# Altium schematic symbol library stm32f413vgt6.SchLib: 1 symbol
Pins are listed as number, name and electrical type; pins without a type are passive.

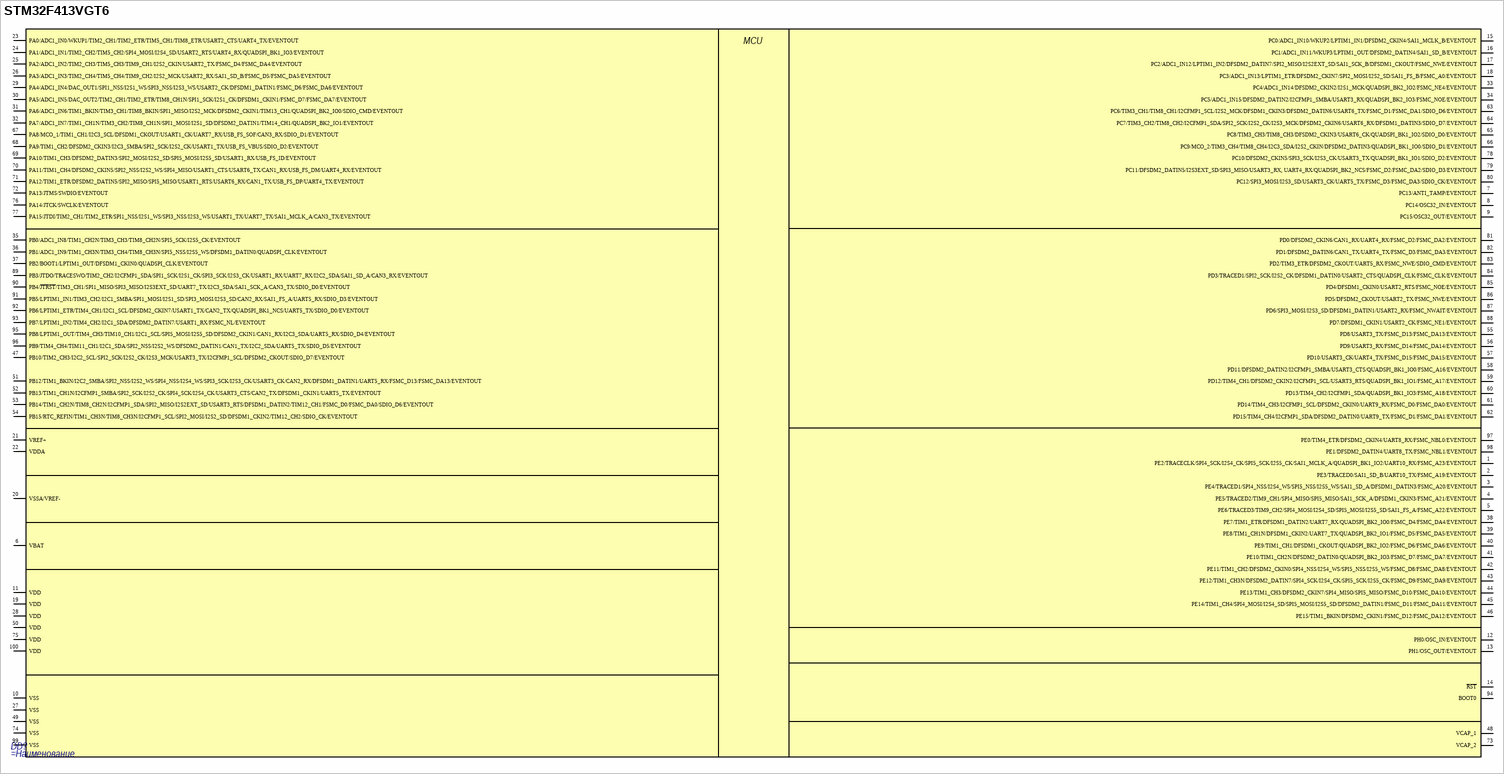
[diagram p0: symbol STM32F413VGT6]

## STM32F413VGT6
designator DD?
=Описание
pins: 1 PE2/TRACECLK/SPI4_SCK/I2S4_CK/SPI5_SCK/I2S5_CK/SAI1_MCLK_A/QUADSPI_BK1_IO2/UART10_RX/FSMC_A23/EVENTOUT, 2 PE3/TRACED0/SAI1_SD_B/UART10_TX/FSMC_A19/EVENTOUT, 3 PE4/TRACED1/SPI4_NSS/I2S4_WS/SPI5_NSS/I2S5_WS/SAI1_SD_A/DFSDM1_DATIN3/FSMC_A20/EVENTOUT, 4 PE5/TRACED2/TIM9_CH1/SPI4_MISO/SPI5_MISO/SAI1_SCK_A/DFSDM1_CKIN3/FSMC_A21/EVENTOUT, 5 PE6/TRACED3/TIM9_CH2/SPI4_MOSI/I2S4_SD/SPI5_MOSI/I2S5_SD/SAI1_FS_A/FSMC_A22/EVENTOUT, 6 VBAT, 7 PC13/ANTI_TAMP/EVENTOUT, 8 PC14/OSC32_IN/EVENTOUT, 9 PC15/OSC32_OUT/EVENTOUT, 10 VSS, 11 VDD, 12 PH0/OSC_IN/EVENTOUT, 13 PH1/OSC_OUT/EVENTOUT, 14 ~{RST}, 15 PC0/ADC1_IN10/WKUP2/LPTIM1_IN1/DFSDM2_CKIN4/SAI1_MCLK_B/EVENTOUT, 16 PC1/ADC1_IN11/WKUP3/LPTIM1_OUT/DFSDM2_DATIN4/SAI1_SD_B/EVENTOUT, 17 PC2/ADC1_IN12/LPTIM1_IN2/DFSDM2_DATIN7/SPI2_MISO/I2S2EXT_SD/SAI1_SCK_B/DFSDM1_CKOUT/FSMC_NWE/EVENTOUT, 18 PC3/ADC1_IN13/LPTIM1_ETR/DFSDM2_CKIN7/SPI2_MOSI/I2S2_SD/SAI1_FS_B/FSMC_A0/EVENTOUT, 19 VDD, 20 VSSA/VREF-, 21 VREF+, 22 VDDA, 23 PA0/ADC1_IN0/WKUP1/TIM2_CH1/TIM2_ETR/TIM5_CH1/TIM8_ETR/USART2_CTS/UART4_TX/EVENTOUT, 24 PA1/ADC1_IN1/TIM2_CH2/TIM5_CH2/SPI4_MOSI/I2S4_SD/USART2_RTS/UART4_RX/QUADSPI_BK1_IO3/EVENTOUT, 25 PA2/ADC1_IN2/TIM2_CH3/TIM5_CH3/TIM9_CH1/I2S2_CKIN/USART2_TX/FSMC_D4/FSMC_DA4/EVENTOUT, 26 PA3/ADC1_IN3/TIM2_CH4/TIM5_CH4/TIM9_CH2/I2S2_MCK/USART2_RX/SAI1_SD_B/FSMC_D5/FSMC_DA5/EVENTOUT, 27 VSS, 28 VDD, 29 PA4/ADC1_IN4/DAC_OUT1/SPI1_NSS/I2S1_WS/SPI3_NSS/I2S3_WS/USART2_CK/DFSDM1_DATIN1/FSMC_D6/FSMC_DA6/EVENTOUT, 30 PA5/ADC1_IN5/DAC_OUT2/TIM2_CH1/TIM2_ETR/TIM8_CH1N/SPI1_SCK/I2S1_CK/DFSDM1_CKIN1/FSMC_D7/FSMC_DA7/EVENTOUT, 31 PA6/ADC1_IN6/TIM1_BKIN/TIM3_CH1/TIM8_BKIN/SPI1_MISO/I2S2_MCK/DFSDM2_CKIN1/TIM13_CH1/QUADSPI_BK2_IO0/SDIO_CMD/EVENTOUT, 32 PA7/ADC1_IN7/TIM1_CH1N/TIM3_CH2/TIM8_CH1N/SPI1_MOSI/I2S1_SD/DFSDM2_DATIN1/TIM14_CH1/QUADSPI_BK2_IO1/EVENTOUT, 33 PC4/ADC1_IN14/DFSDM2_CKIN2/I2S1_MCK/QUADSPI_BK2_IO2/FSMC_NE4/EVENTOUT, 34 PC5/ADC1_IN15/DFSDM2_DATIN2/I2CFMP1_SMBA/USART3_RX/QUADSPI_BK2_IO3/FSMC_NOE/EVENTOUT, 35 PB0/ADC1_IN8/TIM1_CH2N/TIM3_CH3/TIM8_CH2N/SPI5_SCK/I2S5_CK/EVENTOUT, 36 PB1/ADC1_IN9/TIM1_CH3N/TIM3_CH4/TIM8_CH3N/SPI5_NSS/I2S5_WS/DFSDM1_DATIN0/QUADSPI_CLK/EVENTOUT, 37 PB2/BOOT1/LPTIM1_OUT/DFSDM1_CKIN0/QUADSPI_CLK/EVENTOUT, 38 PE7/TIM1_ETR/DFSDM1_DATIN2/UART7_RX/QUADSPI_BK2_IO0/FSMC_D4/FSMC_DA4/EVENTOUT, 39 PE8/TIM1_CH1N/DFSDM1_CKIN2/UART7_TX/QUADSPI_BK2_IO1/FSMC_D5/FSMC_DA5/EVENTOUT, 40 PE9/TIM1_CH1/DFSDM1_CKOUT/QUADSPI_BK2_IO2/FSMC_D6/FSMC_DA6/EVENTOUT, 41 PE10/TIM1_CH2N/DFSDM2_DATIN0/QUADSPI_BK2_IO3/FSMC_D7/FSMC_DA7/EVENTOUT, 42 PE11/TIM1_CH2/DFSDM2_CKIN0/SPI4_NSS/I2S4_WS/SPI5_NSS/I2S5_WS/FSMC_D8/FSMC_DA8/EVENTOUT, 43 PE12/TIM1_CH3N/DFSDM2_DATIN7/SPI4_SCK/I2S4_CK/SPI5_SCK/I2S5_CK/FSMC_D9/FSMC_DA9/EVENTOUT, 44 PE13/TIM1_CH3/DFSDM2_CKIN7/SPI4_MISO/SPI5_MISO/FSMC_D10/FSMC_DA10/EVENTOUT, 45 PE14/TIM1_CH4/SPI4_MOSI/I2S4_SD/SPI5_MOSI/I2S5_SD/DFSDM2_DATIN1/FSMC_D11/FSMC_DA11/EVENTOUT, 46 PE15/TIM1_BKIN/DFSDM2_CKIN1/FSMC_D12/FSMC_DA12/EVENTOUT, 47 PB10/TIM2_CH3/I2C2_SCL/SPI2_SCK/I2S2_CK/I2S3_MCK/USART3_TX/I2CFMP1_SCL/DFSDM2_CKOUT/SDIO_D7/EVENTOUT, 48 VCAP_1, 49 VSS, 50 VDD, 51 PB12/TIM1_BKIN/I2C2_SMBA/SPI2_NSS/I2S2_WS/SPI4_NSS/I2S4_WS/SPI3_SCK/I2S3_CK/USART3_CK/CAN2_RX/DFSDM1_DATIN1/UART5_RX/FSMC_D13/FSMC_DA13/EVENTOUT, 52 PB13/TIM1_CH1N/I2CFMP1_SMBA/SPI2_SCK/I2S2_CK/SPI4_SCK/I2S4_CK/USART3_CTS/CAN2_TX/DFSDM1_CKIN1/UART5_TX/EVENTOUT, 53 PB14/TIM1_CH2N/TIM8_CH2N/I2CFMP1_SDA/SPI2_MISO/I2S2EXT_SD/USART3_RTS/DFSDM1_DATIN2/TIM12_CH1/FSMC_D0/FSMC_DA0/SDIO_D6/EVENTOUT, 54 PB15/RTC_REFIN/TIM1_CH3N/TIM8_CH3N/I2CFMP1_SCL/SPI2_MOSI/I2S2_SD/DFSDM1_CKIN2/TIM12_CH2/SDIO_CK/EVENTOUT, 55 PD8/USART3_TX/FSMC_D13/FSMC_DA13/EVENTOUT, 56 PD9/USART3_RX/FSMC_D14/FSMC_DA14/EVENTOUT, 57 PD10/USART3_CK/UART4_TX/FSMC_D15/FSMC_DA15/EVENTOUT, 58 PD11/DFSDM2_DATIN2/I2CFMP1_SMBA/USART3_CTS/QUADSPI_BK1_IO0/FSMC_A16/EVENTOUT, 59 PD12/TIM4_CH1/DFSDM2_CKIN2/I2CFMP1_SCL/USART3_RTS/QUADSPI_BK1_IO1/FSMC_A17/EVENTOUT, 60 PD13/TIM4_CH2/I2CFMP1_SDA/QUADSPI_BK1_IO3/FSMC_A18/EVENTOUT, 61 PD14/TIM4_CH3/I2CFMP1_SCL/DFSDM2_CKIN0/UART9_RX/FSMC_D0/FSMC_DA0/EVENTOUT, 62 PD15/TIM4_CH4/I2CFMP1_SDA/DFSDM2_DATIN0/UART9_TX/FSMC_D1/FSMC_DA1/EVENTOUT, 63 PC6/TIM3_CH1/TIM8_CH1/I2CFMP1_SCL/I2S2_MCK/DFSDM1_CKIN3/DFSDM2_DATIN6/USART6_TX/FSMC_D1/FSMC_DA1/SDIO_D6/EVENTOUT, 64 PC7/TIM3_CH2/TIM8_CH2/I2CFMP1_SDA/SPI2_SCK/I2S2_CK/I2S3_MCK/DFSDM2_CKIN6/USART6_RX/DFSDM1_DATIN3/SDIO_D7/EVENTOUT, 65 PC8/TIM3_CH3/TIM8_CH3/DFSDM2_CKIN3/USART6_CK/QUADSPI_BK1_IO2/SDIO_D0/EVENTOUT, 66 PC9/MCO_2/TIM3_CH4/TIM8_CH4/I2C3_SDA/I2S2_CKIN/DFSDM2_DATIN3/QUADSPI_BK1_IO0/SDIO_D1/EVENTOUT, 67 PA8/MCO_1/TIM1_CH1/I2C3_SCL/DFSDM1_CKOUT/USART1_CK/UART7_RX/USB_FS_SOF/CAN3_RX/SDIO_D1/EVENTOUT, 68 PA9/TIM1_CH2/DFSDM2_CKIN3/I2C3_SMBA/SPI2_SCK/I2S2_CK/USART1_TX/USB_FS_VBUS/SDIO_D2/EVENTOUT, 69 PA10/TIM1_CH3/DFSDM2_DATIN3/SPI2_MOSI/I2S2_SD/SPI5_MOSI/I2S5_SD/USART1_RX/USB_FS_ID/EVENTOUT, 70 PA11/TIM1_CH4/DFSDM2_CKIN5/SPI2_NSS/I2S2_WS/SPI4_MISO/USART1_CTS/USART6_TX/CAN1_RX/USB_FS_DM/UART4_RX/EVENTOUT, 71 PA12/TIM1_ETR/DFSDM2_DATIN5/SPI2_MISO/SPI5_MISO/USART1_RTS/USART6_RX/CAN1_TX/USB_FS_DP/UART4_TX/EVENTOUT, 72 PA13/JTMS/SWDIO/EVENTOUT, 73 VCAP_2, 74 VSS, 75 VDD, 76 PA14/JTCK/SWCLK/EVENTOUT, 77 PA15/JTDI/TIM2_CH1/TIM2_ETR/SPI1_NSS/I2S1_WS/SPI3_NSS/I2S3_WS/USART1_TX/UART7_TX/SAI1_MCLK_A/CAN3_TX/EVENTOUT, 78 PC10/DFSDM2_CKIN5/SPI3_SCK/I2S3_CK/USART3_TX/QUADSPI_BK1_IO1/SDIO_D2/EVENTOUT, 79 PC11/DFSDM2_DATIN5/I2S3EXT_SD/SPI3_MISO/USART3_RX, UART4_RX/QUADSPI_BK2_NCS/FSMC_D2/FSMC_DA2/SDIO_D3/EVENTOUT, 80 PC12/SPI3_MOSI/I2S3_SD/USART3_CK/UART5_TX/FSMC_D3/FSMC_DA3/SDIO_CK/EVENTOUT, 81 PD0/DFSDM2_CKIN6/CAN1_RX/UART4_RX/FSMC_D2/FSMC_DA2/EVENTOUT, 82 PD1/DFSDM2_DATIN6/CAN1_TX/UART4_TX/FSMC_D3/FSMC_DA3/EVENTOUT, 83 PD2/TIM3_ETR/DFSDM2_CKOUT/UART5_RX/FSMC_NWE/SDIO_CMD/EVENTOUT, 84 PD3/TRACED1/SPI2_SCK/I2S2_CK/DFSDM1_DATIN0/USART2_CTS/QUADSPI_CLK/FSMC_CLK/EVENTOUT, 85 PD4/DFSDM1_CKIN0/USART2_RTS/FSMC_NOE/EVENTOUT, 86 PD5/DFSDM2_CKOUT/USART2_TX/FSMC_NWE/EVENTOUT, 87 PD6/SPI3_MOSI/I2S3_SD/DFSDM1_DATIN1/USART2_RX/FSMC_NWAIT/EVENTOUT, 88 PD7/DFSDM1_CKIN1/USART2_CK/FSMC_NE1/EVENTOUT, 89 PB3/JTDO/TRACESWO/TIM2_CH2/I2CFMP1_SDA/SPI1_SCK/I2S1_CK/SPI3_SCK/I2S3_CK/USART1_RX/UART7_RX/I2C2_SDA/SAI1_SD_A/CAN3_RX/EVENTOUT, 90 PB4/~{JTRST}/TIM3_CH1/SPI1_MISO/SPI3_MISO/I2S3EXT_SD/UART7_TX/I2C3_SDA/SAI1_SCK_A/CAN3_TX/SDIO_D0/EVENTOUT, 91 PB5/LPTIM1_IN1/TIM3_CH2/I2C1_SMBA/SPI1_MOSI/I2S1_SD/SPI3_MOSI/I2S3_SD/CAN2_RX/SAI1_FS_A/UART5_RX/SDIO_D3/EVENTOUT, 92 PB6/LPTIM1_ETR/TIM4_CH1/I2C1_SCL/DFSDM2_CKIN7/USART1_TX/CAN2_TX/QUADSPI_BK1_NCS/UART5_TX/SDIO_D0/EVENTOUT, 93 PB7/LPTIM1_IN2/TIM4_CH2/I2C1_SDA/DFSDM2_DATIN7/USART1_RX/FSMC_NL/EVENTOUT, 94 BOOT0, 95 PB8/LPTIM1_OUT/TIM4_CH3/TIM10_CH1/I2C1_SCL/SPI5_MOSI/I2S5_SD/DFSDM2_CKIN1/CAN1_RX/I2C3_SDA/UART5_RX/SDIO_D4/EVENTOUT, 96 PB9/TIM4_CH4/TIM11_CH1/I2C1_SDA/SPI2_NSS/I2S2_WS/DFSDM2_DATIN1/CAN1_TX/I2C2_SDA/UART5_TX/SDIO_D5/EVENTOUT, 97 PE0/TIM4_ETR/DFSDM2_CKIN4/UART8_RX/FSMC_NBL0/EVENTOUT, 98 PE1/DFSDM2_DATIN4/UART8_TX/FSMC_NBL1/EVENTOUT, 99 VSS, 100 VDD
text: MCU